# Altium footprint library DFN-2L.PcbLib: 1 footprints
Each footprint in its own frame and in the unit in brackets; x right, y up, seen from the top. Pads: shape width x height; smd on the part's side, far side on the other; paste and mask are expansions set on the pad; w line width, h text height; cw(c..) or ccw(c..) is an arc to the next point about the centre after c.
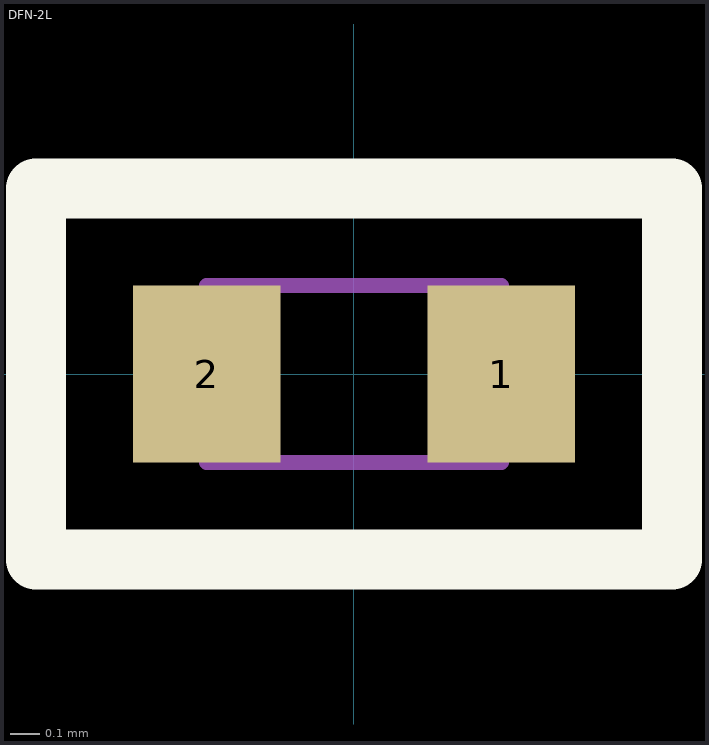
[diagram p0: the footprint, top view; thin cyan lines are the x and y axes]

## DFN-2L [mm]
pads (2):
  rect 0.5x0.6 smd: 1(0.5,0) 2(-0.5,0)
Top Overlay:
  lines w0.203: -1.08,-0.63 -1.08,0.63 1.08,0.63 1.08,-0.63 -1.08,-0.63
Mechanical 13:
  lines w0.051: -0.5,-0.3 0.5,-0.3 0.5,0.3 -0.5,0.3 -0.5,-0.3